# EAGLE library part HC-05 (library personal)
Modulo Bluetooth HC-05
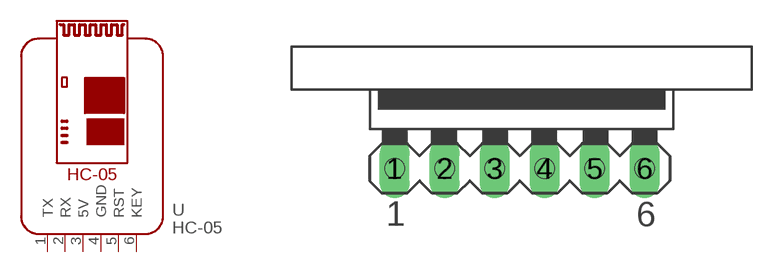
[diagram p0: symbol with the pads of HC-0X_V; footprint HC-0X_V]

Designator prefix -

## HC-05  [HC-0X_V]
1  TX  out
2  RX  in
3  5V  pwr
4  GND  pwr
5  RST
6  KEY

## Footprint HC-0X_V (pad centres in mm)
PIN HEADER
drill 1.016 long: 1 -6.35,-2.54; 2 -3.81,-2.54; 3 -1.27,-2.54; 4 1.27,-2.54; 5 3.81,-2.54; 6 6.35,-2.54
hole 1 at -6.35,-2.54
hole 1 at -3.81,-2.54
hole 1 at -1.27,-2.54
hole 1 at 1.27,-2.54
hole 1 at 3.81,-2.54
hole 1 at 6.35,-2.54